# Altium schematic symbol library jlcpcb_2025_04_ferrites_extended_0402.schlib: 536 symbols (part 8 of 10)
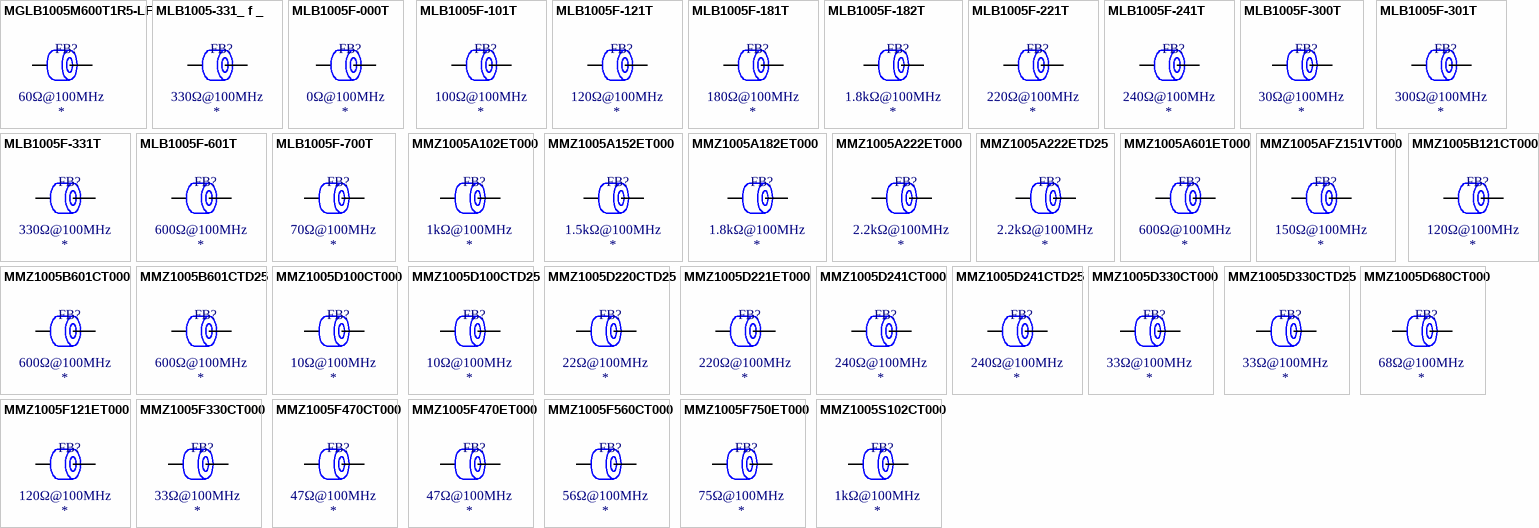
[diagram p20: symbols MGLB1005M600T1R5-LF to MMZ1005S102CT000]

## MMZ1005D330CTD25
designator FB?  Impedance @ Frequency: 33Ω@100MHz
Ferrite, 33Ω@100MHz, ±25%, 240mΩ, 400mA, SMD 0402; Manufacturer: TDK; Manufacturer Part Number: MMZ1005D330CTD25; Package Size: 0402; JLCPCB Basic Part: No; JLCPCB Part Number: C404707; Supplier 1: LCSC; Category: Ferrite Beads; Supplier Part Number 1: C404707; Tolerance: ±25%; Rated Current: 400mA; DC Resistance: 240mΩ; RoHS: Yes; ComponentLink1Description: Datasheet; ComponentLink1URL: https://wmsc.lcsc.com/wmsc/upload/file/pdf/v2/lcsc/2304140030_TDK-MMZ1005D330CTD25_C404707.pdf; ComponentLink2Description: JLCPCB Part URL; ComponentLink2URL: https://jlcpcb.com/partdetail/C404707; ComponentLink3Description: LCSC Part URL; ComponentLink3URL: https://lcsc.com/product-detail/Ferrite-Beads_TDK-TDK-MMZ1005D330CTD25_C404707.html
footprint FB-0402 (0402 (1005M) Ferrite)
pins: 1, 2

## MMZ1005D680CT000
designator FB?  Impedance @ Frequency: 68Ω@100MHz
Ferrite, 68Ω@100MHz, ±25%, 380mΩ, 400mA, SMD 0402; Manufacturer: TDK; Manufacturer Part Number: MMZ1005D680CT000; Package Size: 0402; JLCPCB Basic Part: No; JLCPCB Part Number: C275416; Supplier 1: LCSC; Category: Ferrite Beads; Supplier Part Number 1: C275416; Tolerance: ±25%; Rated Current: 400mA; DC Resistance: 380mΩ; RoHS: Yes; ComponentLink1Description: Datasheet; ComponentLink1URL: https://wmsc.lcsc.com/wmsc/upload/file/pdf/v2/lcsc/2304140030_TDK-MMZ1005D680CT000_C275416.pdf; ComponentLink2Description: JLCPCB Part URL; ComponentLink2URL: https://jlcpcb.com/partdetail/C275416; ComponentLink3Description: LCSC Part URL; ComponentLink3URL: https://lcsc.com/product-detail/Ferrite-Beads_TDK-TDK-MMZ1005D680CT000_C275416.html
footprint FB-0402 (0402 (1005M) Ferrite)
pins: 1, 2

## MMZ1005F121ET000
designator FB?  Impedance @ Frequency: 120Ω@100MHz
Ferrite, 120Ω@100MHz, ±25%, 1.5Ω, 200mA, SMD 0402; Manufacturer: TDK; Manufacturer Part Number: MMZ1005F121ET000; Package Size: 0402; JLCPCB Basic Part: No; JLCPCB Part Number: C89458; Supplier 1: LCSC; Category: Ferrite Beads; Supplier Part Number 1: C89458; Tolerance: ±25%; Rated Current: 200mA; DC Resistance: 1.5Ω; RoHS: Yes; ComponentLink1Description: Datasheet; ComponentLink1URL: https://wmsc.lcsc.com/wmsc/upload/file/pdf/v2/lcsc/1809051316_TDK-MMZ1005F121ET000_C89458.pdf; ComponentLink2Description: JLCPCB Part URL; ComponentLink2URL: https://jlcpcb.com/partdetail/C89458; ComponentLink3Description: LCSC Part URL; ComponentLink3URL: https://lcsc.com/product-detail/Ferrite-Beads_TDK-TDK-MMZ1005F121ET000_C89458.html
footprint FB-0402 (0402 (1005M) Ferrite)
pins: 1, 2

## MMZ1005F330CT000
designator FB?  Impedance @ Frequency: 33Ω@100MHz
Ferrite, 33Ω@100MHz, ±25%, 500mΩ, 200mA, SMD 0402; Manufacturer: TDK; Manufacturer Part Number: MMZ1005F330CT000; Package Size: 0402; JLCPCB Basic Part: No; JLCPCB Part Number: C275418; Supplier 1: LCSC; Category: Ferrite Beads; Supplier Part Number 1: C275418; Tolerance: ±25%; Rated Current: 200mA; DC Resistance: 500mΩ; RoHS: Yes; ComponentLink1Description: Datasheet; ComponentLink1URL: https://wmsc.lcsc.com/wmsc/upload/file/pdf/v2/lcsc/2304140030_TDK-MMZ1005F330CT000_C275418.pdf; ComponentLink2Description: JLCPCB Part URL; ComponentLink2URL: https://jlcpcb.com/partdetail/C275418; ComponentLink3Description: LCSC Part URL; ComponentLink3URL: https://lcsc.com/product-detail/Ferrite-Beads_TDK-TDK-MMZ1005F330CT000_C275418.html
footprint FB-0402 (0402 (1005M) Ferrite)
pins: 1, 2

## MMZ1005F470CT000
designator FB?  Impedance @ Frequency: 47Ω@100MHz
Ferrite, 47Ω@100MHz, ±25%, 600mΩ, 100mA, SMD 0402; Manufacturer: TDK; Manufacturer Part Number: MMZ1005F470CT000; Package Size: 0402; JLCPCB Basic Part: No; JLCPCB Part Number: C275419; Supplier 1: LCSC; Category: Ferrite Beads; Supplier Part Number 1: C275419; Tolerance: ±25%; Rated Current: 100mA; DC Resistance: 600mΩ; RoHS: Yes; ComponentLink1Description: Datasheet; ComponentLink1URL: https://wmsc.lcsc.com/wmsc/upload/file/pdf/v2/lcsc/2304140030_TDK-MMZ1005F470CT000_C275419.pdf; ComponentLink2Description: JLCPCB Part URL; ComponentLink2URL: https://jlcpcb.com/partdetail/C275419; ComponentLink3Description: LCSC Part URL; ComponentLink3URL: https://lcsc.com/product-detail/Ferrite-Beads_TDK-TDK-MMZ1005F470CT000_C275419.html
footprint FB-0402 (0402 (1005M) Ferrite)
pins: 1, 2

## MMZ1005F470ET000
designator FB?  Impedance @ Frequency: 47Ω@100MHz
Ferrite, 47Ω@100MHz, ±25%, 700mΩ, 300mA, SMD 0402; Manufacturer: TDK; Manufacturer Part Number: MMZ1005F470ET000; Package Size: 0402; JLCPCB Basic Part: No; JLCPCB Part Number: C275420; Supplier 1: LCSC; Category: Ferrite Beads; Supplier Part Number 1: C275420; Tolerance: ±25%; Rated Current: 300mA; DC Resistance: 700mΩ; RoHS: Yes; ComponentLink1Description: Datasheet; ComponentLink1URL: https://wmsc.lcsc.com/wmsc/upload/file/pdf/v2/lcsc/2304140030_TDK-MMZ1005F470ET000_C275420.pdf; ComponentLink2Description: JLCPCB Part URL; ComponentLink2URL: https://jlcpcb.com/partdetail/C275420; ComponentLink3Description: LCSC Part URL; ComponentLink3URL: https://lcsc.com/product-detail/Ferrite-Beads_TDK-TDK-MMZ1005F470ET000_C275420.html
footprint FB-0402 (0402 (1005M) Ferrite)
pins: 1, 2

## MMZ1005F560CT000
designator FB?  Impedance @ Frequency: 56Ω@100MHz
Ferrite, 56Ω@100MHz, ±25%, 700mΩ, 100mA, SMD 0402; Manufacturer: TDK; Manufacturer Part Number: MMZ1005F560CT000; Package Size: 0402; JLCPCB Basic Part: No; JLCPCB Part Number: C275421; Supplier 1: LCSC; Category: Ferrite Beads; Supplier Part Number 1: C275421; Tolerance: ±25%; Rated Current: 100mA; DC Resistance: 700mΩ; RoHS: Yes; ComponentLink1Description: Datasheet; ComponentLink1URL: https://wmsc.lcsc.com/wmsc/upload/file/pdf/v2/lcsc/2304140030_TDK-MMZ1005F560CT000_C275421.pdf; ComponentLink2Description: JLCPCB Part URL; ComponentLink2URL: https://jlcpcb.com/partdetail/C275421; ComponentLink3Description: LCSC Part URL; ComponentLink3URL: https://lcsc.com/product-detail/Ferrite-Beads_TDK-TDK-MMZ1005F560CT000_C275421.html
footprint FB-0402 (0402 (1005M) Ferrite)
pins: 1, 2

## MMZ1005F750ET000
designator FB?  Impedance @ Frequency: 75Ω@100MHz
Ferrite, 75Ω@100MHz, ±25%, 1Ω, 250mA, SMD 0402; Manufacturer: TDK; Manufacturer Part Number: MMZ1005F750ET000; Package Size: 0402; JLCPCB Basic Part: No; JLCPCB Part Number: C275422; Supplier 1: LCSC; Category: Ferrite Beads; Supplier Part Number 1: C275422; Tolerance: ±25%; Rated Current: 250mA; DC Resistance: 1Ω; RoHS: Yes; ComponentLink1Description: Datasheet; ComponentLink1URL: https://wmsc.lcsc.com/wmsc/upload/file/pdf/v2/lcsc/2304140030_TDK-MMZ1005F750ET000_C275422.pdf; ComponentLink2Description: JLCPCB Part URL; ComponentLink2URL: https://jlcpcb.com/partdetail/C275422; ComponentLink3Description: LCSC Part URL; ComponentLink3URL: https://lcsc.com/product-detail/Ferrite-Beads_TDK-TDK-MMZ1005F750ET000_C275422.html
footprint FB-0402 (0402 (1005M) Ferrite)
pins: 1, 2

## MMZ1005S102CT000
designator FB?  Impedance @ Frequency: 1kΩ@100MHz
Ferrite, 1kΩ@100MHz, ±25%, 750mΩ, 200mA, SMD 0402; Manufacturer: TDK; Manufacturer Part Number: MMZ1005S102CT000; Package Size: 0402; JLCPCB Basic Part: No; JLCPCB Part Number: C76803; Supplier 1: LCSC; Category: Ferrite Beads; Supplier Part Number 1: C76803; Tolerance: ±25%; Rated Current: 200mA; DC Resistance: 750mΩ; RoHS: Yes; ComponentLink1Description: Datasheet; ComponentLink1URL: https://wmsc.lcsc.com/wmsc/upload/file/pdf/v2/lcsc/2304140030_TDK-MMZ1005S102CT000_C76803.pdf; ComponentLink2Description: JLCPCB Part URL; ComponentLink2URL: https://jlcpcb.com/partdetail/C76803; ComponentLink3Description: LCSC Part URL; ComponentLink3URL: https://lcsc.com/product-detail/Ferrite-Beads_TDK-TDK-MMZ1005S102CT000_C76803.html
footprint FB-0402 (0402 (1005M) Ferrite)
pins: 1, 2

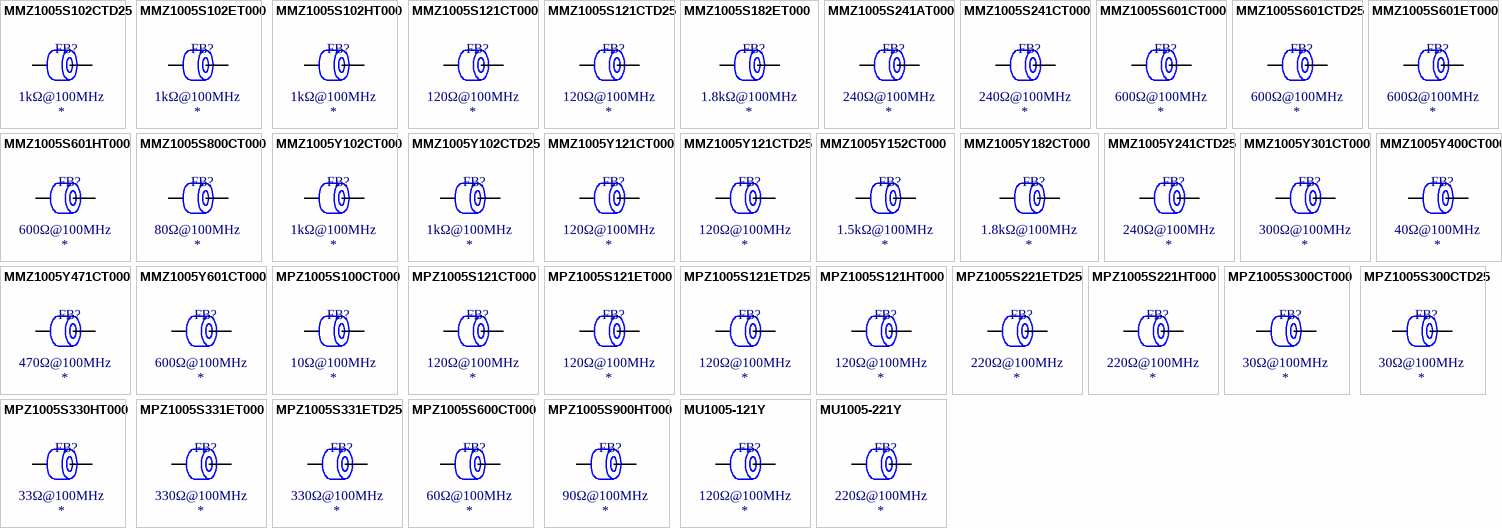
[diagram p10: symbols MMZ1005S102CTD25 to MU1005-221Y]

## MMZ1005S102CTD25
designator FB?  Impedance @ Frequency: 1kΩ@100MHz
Ferrite, 1kΩ@100MHz, ±25%, 750mΩ, 200mA, SMD 0402; Manufacturer: TDK; Manufacturer Part Number: MMZ1005S102CTD25; Package Size: 0402; JLCPCB Basic Part: No; JLCPCB Part Number: C360716; Supplier 1: LCSC; Category: Ferrite Beads; Supplier Part Number 1: C360716; Tolerance: ±25%; Rated Current: 200mA; DC Resistance: 750mΩ; RoHS: Yes; ComponentLink1Description: Datasheet; ComponentLink1URL: https://wmsc.lcsc.com/wmsc/upload/file/pdf/v2/lcsc/1912111437_TDK-MMZ1005S102CTD25_C360716.pdf; ComponentLink2Description: JLCPCB Part URL; ComponentLink2URL: https://jlcpcb.com/partdetail/C360716; ComponentLink3Description: LCSC Part URL; ComponentLink3URL: https://lcsc.com/product-detail/Ferrite-Beads_TDK-TDK-MMZ1005S102CTD25_C360716.html
footprint FB-0402 (0402 (1005M) Ferrite)
pins: 1, 2

## MMZ1005S102ET000
designator FB?  Impedance @ Frequency: 1kΩ@100MHz
Ferrite, 1kΩ@100MHz, ±25%, 1Ω, 250mA, SMD 0402; Manufacturer: TDK; Manufacturer Part Number: MMZ1005S102ET000; Package Size: 0402; JLCPCB Basic Part: No; JLCPCB Part Number: C275423; Supplier 1: LCSC; Category: Ferrite Beads; Supplier Part Number 1: C275423; Tolerance: ±25%; Rated Current: 250mA; DC Resistance: 1Ω; RoHS: Yes; ComponentLink1Description: Datasheet; ComponentLink1URL: https://wmsc.lcsc.com/wmsc/upload/file/pdf/v2/lcsc/2304140030_TDK-MMZ1005S102ET000_C275423.pdf; ComponentLink2Description: JLCPCB Part URL; ComponentLink2URL: https://jlcpcb.com/partdetail/C275423; ComponentLink3Description: LCSC Part URL; ComponentLink3URL: https://lcsc.com/product-detail/Ferrite-Beads_TDK-TDK-MMZ1005S102ET000_C275423.html
footprint FB-0402 (0402 (1005M) Ferrite)
pins: 1, 2

## MMZ1005S102HT000
designator FB?  Impedance @ Frequency: 1kΩ@100MHz
Ferrite, 1kΩ@100MHz, ±25%, 490mΩ, 360mA, SMD 0402; Manufacturer: TDK; Manufacturer Part Number: MMZ1005S102HT000; Package Size: 0402; JLCPCB Basic Part: No; JLCPCB Part Number: C193412; Supplier 1: LCSC; Category: Ferrite Beads; Supplier Part Number 1: C193412; Tolerance: ±25%; Rated Current: 360mA; DC Resistance: 490mΩ; RoHS: Yes; ComponentLink1Description: Datasheet; ComponentLink1URL: https://wmsc.lcsc.com/wmsc/upload/file/pdf/v2/lcsc/1810010153_TDK-MMZ1005S102HT000_C193412.pdf; ComponentLink2Description: JLCPCB Part URL; ComponentLink2URL: https://jlcpcb.com/partdetail/C193412; ComponentLink3Description: LCSC Part URL; ComponentLink3URL: https://lcsc.com/product-detail/Ferrite-Beads_TDK-TDK-MMZ1005S102HT000_C193412.html
footprint FB-0402 (0402 (1005M) Ferrite)
pins: 1, 2

## MMZ1005S121CT000
designator FB?  Impedance @ Frequency: 120Ω@100MHz
Ferrite, 120Ω@100MHz, ±25%, 220mΩ, 500mA, SMD 0402; Manufacturer: TDK; Manufacturer Part Number: MMZ1005S121CT000; Package Size: 0402; JLCPCB Basic Part: No; JLCPCB Part Number: C92036; Supplier 1: LCSC; Category: Ferrite Beads; Supplier Part Number 1: C92036; Tolerance: ±25%; Rated Current: 500mA; DC Resistance: 220mΩ; RoHS: Yes; ComponentLink1Description: Datasheet; ComponentLink1URL: https://wmsc.lcsc.com/wmsc/upload/file/pdf/v2/lcsc/2304140030_TDK-MMZ1005S121CT000_C92036.pdf; ComponentLink2Description: JLCPCB Part URL; ComponentLink2URL: https://jlcpcb.com/partdetail/C92036; ComponentLink3Description: LCSC Part URL; ComponentLink3URL: https://lcsc.com/product-detail/Ferrite-Beads_TDK-TDK-MMZ1005S121CT000_C92036.html
footprint FB-0402 (0402 (1005M) Ferrite)
pins: 1, 2

## MMZ1005S121CTD25
designator FB?  Impedance @ Frequency: 120Ω@100MHz
Ferrite, 120Ω@100MHz, ±25%, 220mΩ, 500mA, SMD 0402; Manufacturer: TDK; Manufacturer Part Number: MMZ1005S121CTD25; Package Size: 0402; JLCPCB Basic Part: No; JLCPCB Part Number: C404693; Supplier 1: LCSC; Category: Ferrite Beads; Supplier Part Number 1: C404693; Tolerance: ±25%; Rated Current: 500mA; DC Resistance: 220mΩ; RoHS: Yes; ComponentLink1Description: Datasheet; ComponentLink1URL: https://wmsc.lcsc.com/wmsc/upload/file/pdf/v2/lcsc/2304140030_TDK-MMZ1005S121CTD25_C404693.pdf; ComponentLink2Description: JLCPCB Part URL; ComponentLink2URL: https://jlcpcb.com/partdetail/C404693; ComponentLink3Description: LCSC Part URL; ComponentLink3URL: https://lcsc.com/product-detail/Ferrite-Beads_TDK-TDK-MMZ1005S121CTD25_C404693.html
footprint FB-0402 (0402 (1005M) Ferrite)
pins: 1, 2

## MMZ1005S182ET000
designator FB?  Impedance @ Frequency: 1.8kΩ@100MHz
Ferrite, 1.8kΩ@100MHz, ±25%, 1.5Ω, 200mA, SMD 0402; Manufacturer: TDK; Manufacturer Part Number: MMZ1005S182ET000; Package Size: 0402; JLCPCB Basic Part: No; JLCPCB Part Number: C694571; Supplier 1: LCSC; Category: Ferrite Beads; Supplier Part Number 1: C694571; Tolerance: ±25%; Rated Current: 200mA; DC Resistance: 1.5Ω; RoHS: Yes; ComponentLink1Description: Datasheet; ComponentLink1URL: https://wmsc.lcsc.com/wmsc/upload/file/pdf/v2/lcsc/2105241314_TDK-MMZ1005S182ET000_C694571.pdf; ComponentLink2Description: JLCPCB Part URL; ComponentLink2URL: https://jlcpcb.com/partdetail/C694571; ComponentLink3Description: LCSC Part URL; ComponentLink3URL: https://lcsc.com/product-detail/Ferrite-Beads_TDK-TDK-MMZ1005S182ET000_C694571.html
footprint FB-0402 (0402 (1005M) Ferrite)
pins: 1, 2

## MMZ1005S241AT000
designator FB?  Impedance @ Frequency: 240Ω@100MHz
Ferrite, 240Ω@100MHz, ±25%, 280mΩ, 400mA, SMD 0402; Manufacturer: TDK; Manufacturer Part Number: MMZ1005S241AT000; Package Size: 0402; JLCPCB Basic Part: No; JLCPCB Part Number: C87548; Supplier 1: LCSC; Category: Ferrite Beads; Supplier Part Number 1: C87548; Tolerance: ±25%; Rated Current: 400mA; DC Resistance: 280mΩ; RoHS: Yes; ComponentLink1Description: Datasheet; ComponentLink1URL: https://wmsc.lcsc.com/wmsc/upload/file/pdf/v2/lcsc/1810162217_TDK-MMZ1005S241AT000_C87548.pdf; ComponentLink2Description: JLCPCB Part URL; ComponentLink2URL: https://jlcpcb.com/partdetail/C87548; ComponentLink3Description: LCSC Part URL; ComponentLink3URL: https://lcsc.com/product-detail/Ferrite-Beads_TDK-TDK-MMZ1005S241AT000_C87548.html
footprint FB-0402 (0402 (1005M) Ferrite)
pins: 1, 2

## MMZ1005S241CT000
designator FB?  Impedance @ Frequency: 240Ω@100MHz
Ferrite, 240Ω@100MHz, ±25%, 280mΩ, 400mA, SMD 0402; Manufacturer: TDK; Manufacturer Part Number: MMZ1005S241CT000; Package Size: 0402; JLCPCB Basic Part: No; JLCPCB Part Number: C87549; Supplier 1: LCSC; Category: Ferrite Beads; Supplier Part Number 1: C87549; Tolerance: ±25%; Rated Current: 400mA; DC Resistance: 280mΩ; RoHS: Yes; ComponentLink1Description: Datasheet; ComponentLink1URL: https://wmsc.lcsc.com/wmsc/upload/file/pdf/v2/lcsc/2304140030_TDK-MMZ1005S241CT000_C87549.pdf; ComponentLink2Description: JLCPCB Part URL; ComponentLink2URL: https://jlcpcb.com/partdetail/C87549; ComponentLink3Description: LCSC Part URL; ComponentLink3URL: https://lcsc.com/product-detail/Ferrite-Beads_TDK-TDK-MMZ1005S241CT000_C87549.html
footprint FB-0402 (0402 (1005M) Ferrite)
pins: 1, 2

## MMZ1005S601CT000
designator FB?  Impedance @ Frequency: 600Ω@100MHz
Ferrite, 600Ω@100MHz, ±25%, 520mΩ, 300mA, SMD 0402; Manufacturer: TDK; Manufacturer Part Number: MMZ1005S601CT000; Package Size: 0402; JLCPCB Basic Part: No; JLCPCB Part Number: C76804; Supplier 1: LCSC; Category: Ferrite Beads; Supplier Part Number 1: C76804; Tolerance: ±25%; Rated Current: 300mA; DC Resistance: 520mΩ; RoHS: Yes; ComponentLink1Description: Datasheet; ComponentLink1URL: https://wmsc.lcsc.com/wmsc/upload/file/pdf/v2/lcsc/2304140030_TDK-MMZ1005S601CT000_C76804.pdf; ComponentLink2Description: JLCPCB Part URL; ComponentLink2URL: https://jlcpcb.com/partdetail/C76804; ComponentLink3Description: LCSC Part URL; ComponentLink3URL: https://lcsc.com/product-detail/Ferrite-Beads_TDK-TDK-MMZ1005S601CT000_C76804.html
footprint FB-0402 (0402 (1005M) Ferrite)
pins: 1, 2

## MMZ1005S601CTD25
designator FB?  Impedance @ Frequency: 600Ω@100MHz
Ferrite, 600Ω@100MHz, ±25%, 520mΩ, 300mA, SMD 0402; Manufacturer: TDK; Manufacturer Part Number: MMZ1005S601CTD25; Package Size: 0402; JLCPCB Basic Part: No; JLCPCB Part Number: C193388; Supplier 1: LCSC; Category: Ferrite Beads; Supplier Part Number 1: C193388; Tolerance: ±25%; Rated Current: 300mA; DC Resistance: 520mΩ; RoHS: Yes; ComponentLink1Description: Datasheet; ComponentLink1URL: https://wmsc.lcsc.com/wmsc/upload/file/pdf/v2/lcsc/2304140030_TDK-MMZ1005S601CTD25_C193388.pdf; ComponentLink2Description: JLCPCB Part URL; ComponentLink2URL: https://jlcpcb.com/partdetail/C193388; ComponentLink3Description: LCSC Part URL; ComponentLink3URL: https://lcsc.com/product-detail/Ferrite-Beads_TDK-TDK-MMZ1005S601CTD25_C193388.html
footprint FB-0402 (0402 (1005M) Ferrite)
pins: 1, 2

## MMZ1005S601ET000
designator FB?  Impedance @ Frequency: 600Ω@100MHz
Ferrite, 600Ω@100MHz, ±25%, 650mΩ, 300mA, SMD 0402; Manufacturer: TDK; Manufacturer Part Number: MMZ1005S601ET000; Package Size: 0402; JLCPCB Basic Part: No; JLCPCB Part Number: C87550; Supplier 1: LCSC; Category: Ferrite Beads; Supplier Part Number 1: C87550; Tolerance: ±25%; Rated Current: 300mA; DC Resistance: 650mΩ; RoHS: Yes; ComponentLink1Description: Datasheet; ComponentLink1URL: https://wmsc.lcsc.com/wmsc/upload/file/pdf/v2/lcsc/2304140030_TDK-MMZ1005S601ET000_C87550.pdf; ComponentLink2Description: JLCPCB Part URL; ComponentLink2URL: https://jlcpcb.com/partdetail/C87550; ComponentLink3Description: LCSC Part URL; ComponentLink3URL: https://lcsc.com/product-detail/Ferrite-Beads_TDK-TDK-MMZ1005S601ET000_C87550.html
footprint FB-0402 (0402 (1005M) Ferrite)
pins: 1, 2

## MMZ1005S601HT000
designator FB?  Impedance @ Frequency: 600Ω@100MHz
Ferrite, 600Ω@100MHz, ±25%, 340mΩ, 440mA, SMD 0402; Manufacturer: TDK; Manufacturer Part Number: MMZ1005S601HT000; Package Size: 0402; JLCPCB Basic Part: No; JLCPCB Part Number: C193387; Supplier 1: LCSC; Category: Ferrite Beads; Supplier Part Number 1: C193387; Tolerance: ±25%; Rated Current: 440mA; DC Resistance: 340mΩ; RoHS: Yes; ComponentLink1Description: Datasheet; ComponentLink1URL: https://wmsc.lcsc.com/wmsc/upload/file/pdf/v2/lcsc/2304140030_TDK-MMZ1005S601HT000_C193387.pdf; ComponentLink2Description: JLCPCB Part URL; ComponentLink2URL: https://jlcpcb.com/partdetail/C193387; ComponentLink3Description: LCSC Part URL; ComponentLink3URL: https://lcsc.com/product-detail/Ferrite-Beads_TDK-TDK-MMZ1005S601HT000_C193387.html
footprint FB-0402 (0402 (1005M) Ferrite)
pins: 1, 2

## MMZ1005S800CT000
designator FB?  Impedance @ Frequency: 80Ω@100MHz
Ferrite, 80Ω@100MHz, ±25%, 120mΩ, 500mA, SMD 0402; Manufacturer: TDK; Manufacturer Part Number: MMZ1005S800CT000; Package Size: 0402; JLCPCB Basic Part: No; JLCPCB Part Number: C76805; Supplier 1: LCSC; Category: Ferrite Beads; Supplier Part Number 1: C76805; Tolerance: ±25%; Rated Current: 500mA; DC Resistance: 120mΩ; RoHS: Yes; ComponentLink1Description: Datasheet; ComponentLink1URL: https://wmsc.lcsc.com/wmsc/upload/file/pdf/v2/lcsc/2304140030_TDK-MMZ1005S800CT000_C76805.pdf; ComponentLink2Description: JLCPCB Part URL; ComponentLink2URL: https://jlcpcb.com/partdetail/C76805; ComponentLink3Description: LCSC Part URL; ComponentLink3URL: https://lcsc.com/product-detail/Ferrite-Beads_TDK-TDK-MMZ1005S800CT000_C76805.html
footprint FB-0402 (0402 (1005M) Ferrite)
pins: 1, 2

## MMZ1005Y102CT000
designator FB?  Impedance @ Frequency: 1kΩ@100MHz
Ferrite, 1kΩ@100MHz, ±25%, 700mΩ, 200mA, SMD 0402; Manufacturer: TDK; Manufacturer Part Number: MMZ1005Y102CT000; Package Size: 0402; JLCPCB Basic Part: No; JLCPCB Part Number: C275428; Supplier 1: LCSC; Category: Ferrite Beads; Supplier Part Number 1: C275428; Tolerance: ±25%; Rated Current: 200mA; DC Resistance: 700mΩ; RoHS: Yes; ComponentLink1Description: Datasheet; ComponentLink1URL: https://wmsc.lcsc.com/wmsc/upload/file/pdf/v2/lcsc/2304140030_TDK-MMZ1005Y102CT000_C275428.pdf; ComponentLink2Description: JLCPCB Part URL; ComponentLink2URL: https://jlcpcb.com/partdetail/C275428; ComponentLink3Description: LCSC Part URL; ComponentLink3URL: https://lcsc.com/product-detail/Ferrite-Beads_TDK-TDK-MMZ1005Y102CT000_C275428.html
footprint FB-0402 (0402 (1005M) Ferrite)
pins: 1, 2

## MMZ1005Y102CTD25
designator FB?  Impedance @ Frequency: 1kΩ@100MHz
Ferrite, 1kΩ@100MHz, ±25%, 700mΩ, 200mA, SMD 0402; Manufacturer: TDK; Manufacturer Part Number: MMZ1005Y102CTD25; Package Size: 0402; JLCPCB Basic Part: No; JLCPCB Part Number: C404702; Supplier 1: LCSC; Category: Ferrite Beads; Supplier Part Number 1: C404702; Tolerance: ±25%; Rated Current: 200mA; DC Resistance: 700mΩ; RoHS: Yes; ComponentLink1Description: Datasheet; ComponentLink1URL: https://wmsc.lcsc.com/wmsc/upload/file/pdf/v2/lcsc/2304140030_TDK-MMZ1005Y102CTD25_C404702.pdf; ComponentLink2Description: JLCPCB Part URL; ComponentLink2URL: https://jlcpcb.com/partdetail/C404702; ComponentLink3Description: LCSC Part URL; ComponentLink3URL: https://lcsc.com/product-detail/Ferrite-Beads_TDK-TDK-MMZ1005Y102CTD25_C404702.html
footprint FB-0402 (0402 (1005M) Ferrite)
pins: 1, 2

## MMZ1005Y121CT000
designator FB?  Impedance @ Frequency: 120Ω@100MHz
Ferrite, 120Ω@100MHz, ±25%, 180mΩ, 400mA, SMD 0402; Manufacturer: TDK; Manufacturer Part Number: MMZ1005Y121CT000; Package Size: 0402; JLCPCB Basic Part: No; JLCPCB Part Number: C107324; Supplier 1: LCSC; Category: Ferrite Beads; Supplier Part Number 1: C107324; Tolerance: ±25%; Rated Current: 400mA; DC Resistance: 180mΩ; RoHS: Yes; ComponentLink1Description: Datasheet; ComponentLink1URL: https://wmsc.lcsc.com/wmsc/upload/file/pdf/v2/lcsc/1809051314_TDK-MMZ1005Y121CT000_C107324.pdf; ComponentLink2Description: JLCPCB Part URL; ComponentLink2URL: https://jlcpcb.com/partdetail/C107324; ComponentLink3Description: LCSC Part URL; ComponentLink3URL: https://lcsc.com/product-detail/Ferrite-Beads_TDK-TDK-MMZ1005Y121CT000_C107324.html
footprint FB-0402 (0402 (1005M) Ferrite)
pins: 1, 2

## MMZ1005Y121CTD25
designator FB?  Impedance @ Frequency: 120Ω@100MHz
Ferrite, 120Ω@100MHz, ±25%, 180mΩ, 400mA, SMD 0402; Manufacturer: TDK; Manufacturer Part Number: MMZ1005Y121CTD25; Package Size: 0402; JLCPCB Basic Part: No; JLCPCB Part Number: C404697; Supplier 1: LCSC; Category: Ferrite Beads; Supplier Part Number 1: C404697; Tolerance: ±25%; Rated Current: 400mA; DC Resistance: 180mΩ; RoHS: Yes; ComponentLink1Description: Datasheet; ComponentLink1URL: https://wmsc.lcsc.com/wmsc/upload/file/pdf/v2/lcsc/2304140030_TDK-MMZ1005Y121CTD25_C404697.pdf; ComponentLink2Description: JLCPCB Part URL; ComponentLink2URL: https://jlcpcb.com/partdetail/C404697; ComponentLink3Description: LCSC Part URL; ComponentLink3URL: https://lcsc.com/product-detail/Ferrite-Beads_TDK-TDK-MMZ1005Y121CTD25_C404697.html
footprint FB-0402 (0402 (1005M) Ferrite)
pins: 1, 2

## MMZ1005Y152CT000
designator FB?  Impedance @ Frequency: 1.5kΩ@100MHz
Ferrite, 1.5kΩ@100MHz, ±25%, 1Ω, 100mA, SMD 0402; Manufacturer: TDK; Manufacturer Part Number: MMZ1005Y152CT000; Package Size: 0402; JLCPCB Basic Part: No; JLCPCB Part Number: C275430; Supplier 1: LCSC; Category: Ferrite Beads; Supplier Part Number 1: C275430; Tolerance: ±25%; Rated Current: 100mA; DC Resistance: 1Ω; RoHS: Yes; ComponentLink1Description: Datasheet; ComponentLink1URL: https://wmsc.lcsc.com/wmsc/upload/file/pdf/v2/lcsc/1810140909_TDK-MMZ1005Y152CT000_C275430.pdf; ComponentLink2Description: JLCPCB Part URL; ComponentLink2URL: https://jlcpcb.com/partdetail/C275430; ComponentLink3Description: LCSC Part URL; ComponentLink3URL: https://lcsc.com/product-detail/Ferrite-Beads_TDK-TDK-MMZ1005Y152CT000_C275430.html
footprint FB-0402 (0402 (1005M) Ferrite)
pins: 1, 2

## MMZ1005Y182CT000
designator FB?  Impedance @ Frequency: 1.8kΩ@100MHz
Ferrite, 1.8kΩ@100MHz, ±25%, 850mΩ, 150mA, SMD 0402; Manufacturer: TDK; Manufacturer Part Number: MMZ1005Y182CT000; Package Size: 0402; JLCPCB Basic Part: No; JLCPCB Part Number: C2683172; Supplier 1: LCSC; Category: Ferrite Beads; Supplier Part Number 1: C2683172; Tolerance: ±25%; Rated Current: 150mA; DC Resistance: 850mΩ; RoHS: Yes; ComponentLink1Description: Datasheet; ComponentLink1URL: https://wmsc.lcsc.com/wmsc/upload/file/pdf/v2/lcsc/2106070404_TDK-MMZ1005Y182CT000_C2683172.pdf; ComponentLink2Description: JLCPCB Part URL; ComponentLink2URL: https://jlcpcb.com/partdetail/C2683172; ComponentLink3Description: LCSC Part URL; ComponentLink3URL: https://lcsc.com/product-detail/Ferrite-Beads_TDK-TDK-MMZ1005Y182CT000_C2683172.html
footprint FB-0402 (0402 (1005M) Ferrite)
pins: 1, 2

## MMZ1005Y241CTD25
designator FB?  Impedance @ Frequency: 240Ω@100MHz
Ferrite, 240Ω@100MHz, ±25%, 260mΩ, 300mA, SMD 0402; Manufacturer: TDK; Manufacturer Part Number: MMZ1005Y241CTD25; Package Size: 0402; JLCPCB Basic Part: No; JLCPCB Part Number: C404698; Supplier 1: LCSC; Category: Ferrite Beads; Supplier Part Number 1: C404698; Tolerance: ±25%; Rated Current: 300mA; DC Resistance: 260mΩ; RoHS: Yes; ComponentLink1Description: Datasheet; ComponentLink1URL: https://wmsc.lcsc.com/wmsc/upload/file/pdf/v2/lcsc/2304140030_TDK-MMZ1005Y241CTD25_C404698.pdf; ComponentLink2Description: JLCPCB Part URL; ComponentLink2URL: https://jlcpcb.com/partdetail/C404698; ComponentLink3Description: LCSC Part URL; ComponentLink3URL: https://lcsc.com/product-detail/Ferrite-Beads_TDK-TDK-MMZ1005Y241CTD25_C404698.html
footprint FB-0402 (0402 (1005M) Ferrite)
pins: 1, 2

## MMZ1005Y301CT000
designator FB?  Impedance @ Frequency: 300Ω@100MHz
Ferrite, 300Ω@100MHz, ±25%, 380mΩ, 250mA, SMD 0402; Manufacturer: TDK; Manufacturer Part Number: MMZ1005Y301CT000; Package Size: 0402; JLCPCB Basic Part: No; JLCPCB Part Number: C275431; Supplier 1: LCSC; Category: Ferrite Beads; Supplier Part Number 1: C275431; Tolerance: ±25%; Rated Current: 250mA; DC Resistance: 380mΩ; RoHS: Yes; ComponentLink1Description: Datasheet; ComponentLink1URL: https://wmsc.lcsc.com/wmsc/upload/file/pdf/v2/lcsc/2304140030_TDK-MMZ1005Y301CT000_C275431.pdf; ComponentLink2Description: JLCPCB Part URL; ComponentLink2URL: https://jlcpcb.com/partdetail/C275431; ComponentLink3Description: LCSC Part URL; ComponentLink3URL: https://lcsc.com/product-detail/Ferrite-Beads_TDK-TDK-MMZ1005Y301CT000_C275431.html
footprint FB-0402 (0402 (1005M) Ferrite)
pins: 1, 2

## MMZ1005Y400CT000
designator FB?  Impedance @ Frequency: 40Ω@100MHz
Ferrite, 40Ω@100MHz, ±25%, 100mΩ, 550mA, SMD 0402; Manufacturer: TDK; Manufacturer Part Number: MMZ1005Y400CT000; Package Size: 0402; JLCPCB Basic Part: No; JLCPCB Part Number: C76807; Supplier 1: LCSC; Category: Ferrite Beads; Supplier Part Number 1: C76807; Tolerance: ±25%; Rated Current: 550mA; DC Resistance: 100mΩ; RoHS: Yes; ComponentLink1Description: Datasheet; ComponentLink1URL: https://wmsc.lcsc.com/wmsc/upload/file/pdf/v2/lcsc/2304140030_TDK-MMZ1005Y400CT000_C76807.pdf; ComponentLink2Description: JLCPCB Part URL; ComponentLink2URL: https://jlcpcb.com/partdetail/C76807; ComponentLink3Description: LCSC Part URL; ComponentLink3URL: https://lcsc.com/product-detail/Ferrite-Beads_TDK-TDK-MMZ1005Y400CT000_C76807.html
footprint FB-0402 (0402 (1005M) Ferrite)
pins: 1, 2

## MMZ1005Y471CT000
designator FB?  Impedance @ Frequency: 470Ω@100MHz
Ferrite, 470Ω@100MHz, ±25%, 470mΩ, 250mA, SMD 0402; Manufacturer: TDK; Manufacturer Part Number: MMZ1005Y471CT000; Package Size: 0402; JLCPCB Basic Part: No; JLCPCB Part Number: C87551; Supplier 1: LCSC; Category: Ferrite Beads; Supplier Part Number 1: C87551; Tolerance: ±25%; Rated Current: 250mA; DC Resistance: 470mΩ; RoHS: Yes; ComponentLink1Description: Datasheet; ComponentLink1URL: https://wmsc.lcsc.com/wmsc/upload/file/pdf/v2/lcsc/2304140030_TDK-MMZ1005Y471CT000_C87551.pdf; ComponentLink2Description: JLCPCB Part URL; ComponentLink2URL: https://jlcpcb.com/partdetail/C87551; ComponentLink3Description: LCSC Part URL; ComponentLink3URL: https://lcsc.com/product-detail/Ferrite-Beads_TDK-TDK-MMZ1005Y471CT000_C87551.html
footprint FB-0402 (0402 (1005M) Ferrite)
pins: 1, 2

## MMZ1005Y601CT000
designator FB?  Impedance @ Frequency: 600Ω@100MHz
Ferrite, 600Ω@100MHz, ±25%, 540mΩ, 250mA, SMD 0402; Manufacturer: TDK; Manufacturer Part Number: MMZ1005Y601CT000; Package Size: 0402; JLCPCB Basic Part: No; JLCPCB Part Number: C87552; Supplier 1: LCSC; Category: Ferrite Beads; Supplier Part Number 1: C87552; Tolerance: ±25%; Rated Current: 250mA; DC Resistance: 540mΩ; RoHS: Yes; ComponentLink1Description: Datasheet; ComponentLink1URL: https://wmsc.lcsc.com/wmsc/upload/file/pdf/v2/lcsc/2304140030_TDK-MMZ1005Y601CT000_C87552.pdf; ComponentLink2Description: JLCPCB Part URL; ComponentLink2URL: https://jlcpcb.com/partdetail/C87552; ComponentLink3Description: LCSC Part URL; ComponentLink3URL: https://lcsc.com/product-detail/Ferrite-Beads_TDK-TDK-MMZ1005Y601CT000_C87552.html
footprint FB-0402 (0402 (1005M) Ferrite)
pins: 1, 2

## MPZ1005S100CT000
designator FB?  Impedance @ Frequency: 10Ω@100MHz
Ferrite, 10Ω@100MHz, 25mΩ, 3A, SMD 0402; Manufacturer: TDK; Manufacturer Part Number: MPZ1005S100CT000; Package Size: 0402; JLCPCB Basic Part: No; JLCPCB Part Number: C275476; Supplier 1: LCSC; Category: Ferrite Beads; Supplier Part Number 1: C275476; Rated Current: 3A; DC Resistance: 25mΩ; RoHS: Yes; ComponentLink1Description: Datasheet; ComponentLink1URL: https://wmsc.lcsc.com/wmsc/upload/file/pdf/v2/lcsc/2304140030_TDK-MPZ1005S100CT000_C275476.pdf; ComponentLink2Description: JLCPCB Part URL; ComponentLink2URL: https://jlcpcb.com/partdetail/C275476; ComponentLink3Description: LCSC Part URL; ComponentLink3URL: https://lcsc.com/product-detail/Ferrite-Beads_TDK-TDK-MPZ1005S100CT000_C275476.html
pins: 1, 2

## MPZ1005S121CT000
designator FB?  Impedance @ Frequency: 120Ω@100MHz
Ferrite, 120Ω@100MHz, ±25%, 90mΩ, 1.2A, SMD 0402; Manufacturer: TDK; Manufacturer Part Number: MPZ1005S121CT000; Package Size: 0402; JLCPCB Basic Part: No; JLCPCB Part Number: C107331; Supplier 1: LCSC; Category: Ferrite Beads; Supplier Part Number 1: C107331; Tolerance: ±25%; Rated Current: 1.2A; DC Resistance: 90mΩ; RoHS: Yes; ComponentLink1Description: Datasheet; ComponentLink1URL: https://wmsc.lcsc.com/wmsc/upload/file/pdf/v2/lcsc/2304140030_TDK-MPZ1005S121CT000_C107331.pdf; ComponentLink2Description: JLCPCB Part URL; ComponentLink2URL: https://jlcpcb.com/partdetail/C107331; ComponentLink3Description: LCSC Part URL; ComponentLink3URL: https://lcsc.com/product-detail/Ferrite-Beads_TDK-TDK-MPZ1005S121CT000_C107331.html
footprint FB-0402 (0402 (1005M) Ferrite)
pins: 1, 2

## MPZ1005S121ET000
designator FB?  Impedance @ Frequency: 120Ω@100MHz
Ferrite, 120Ω@100MHz, ±25%, 95mΩ, 1.5A, SMD 0402; Manufacturer: TDK; Manufacturer Part Number: MPZ1005S121ET000; Package Size: 0402; JLCPCB Basic Part: No; JLCPCB Part Number: C275477; Supplier 1: LCSC; Category: Ferrite Beads; Supplier Part Number 1: C275477; Tolerance: ±25%; Rated Current: 1.5A; DC Resistance: 95mΩ; RoHS: Yes; ComponentLink1Description: Datasheet; ComponentLink1URL: https://wmsc.lcsc.com/wmsc/upload/file/pdf/v2/lcsc/1912111437_TDK-MPZ1005S121ET000_C275477.pdf; ComponentLink2Description: JLCPCB Part URL; ComponentLink2URL: https://jlcpcb.com/partdetail/C275477; ComponentLink3Description: LCSC Part URL; ComponentLink3URL: https://lcsc.com/product-detail/Ferrite-Beads_TDK-TDK-MPZ1005S121ET000_C275477.html
footprint FB-0402 (0402 (1005M) Ferrite)
pins: 1, 2

## MPZ1005S121ETD25
designator FB?  Impedance @ Frequency: 120Ω@100MHz
Ferrite, 120Ω@100MHz, ±25%, 95mΩ, 1.5A, SMD 0402; Manufacturer: TDK; Manufacturer Part Number: MPZ1005S121ETD25; Package Size: 0402; JLCPCB Basic Part: No; JLCPCB Part Number: C2661532; Supplier 1: LCSC; Category: Ferrite Beads; Supplier Part Number 1: C2661532; Tolerance: ±25%; Rated Current: 1.5A; DC Resistance: 95mΩ; RoHS: Yes; ComponentLink1Description: Datasheet; ComponentLink1URL: https://wmsc.lcsc.com/wmsc/upload/file/pdf/v2/lcsc/2304140030_TDK-MPZ1005S121ETD25_C2661532.pdf; ComponentLink2Description: JLCPCB Part URL; ComponentLink2URL: https://jlcpcb.com/partdetail/C2661532; ComponentLink3Description: LCSC Part URL; ComponentLink3URL: https://lcsc.com/product-detail/Ferrite-Beads_TDK-TDK-MPZ1005S121ETD25_C2661532.html
footprint FB-0402 (0402 (1005M) Ferrite)
pins: 1, 2

## MPZ1005S121HT000
designator FB?  Impedance @ Frequency: 120Ω@100MHz
Ferrite, 120Ω@100MHz, ±25%, 55mΩ, 2A, SMD 0402; Manufacturer: TDK; Manufacturer Part Number: MPZ1005S121HT000; Package Size: 0402; JLCPCB Basic Part: No; JLCPCB Part Number: C275478; Supplier 1: LCSC; Category: Ferrite Beads; Supplier Part Number 1: C275478; Tolerance: ±25%; Rated Current: 2A; DC Resistance: 55mΩ; RoHS: Yes; ComponentLink1Description: Datasheet; ComponentLink1URL: https://wmsc.lcsc.com/wmsc/upload/file/pdf/v2/lcsc/2304140030_TDK-MPZ1005S121HT000_C275478.pdf; ComponentLink2Description: JLCPCB Part URL; ComponentLink2URL: https://jlcpcb.com/partdetail/C275478; ComponentLink3Description: LCSC Part URL; ComponentLink3URL: https://lcsc.com/product-detail/Ferrite-Beads_TDK-TDK-MPZ1005S121HT000_C275478.html
footprint FB-0402 (0402 (1005M) Ferrite)
pins: 1, 2

## MPZ1005S221ETD25
designator FB?  Impedance @ Frequency: 220Ω@100MHz
Ferrite, 220Ω@100MHz, ±25%, 220mΩ, 900mA, SMD 0402; Manufacturer: TDK; Manufacturer Part Number: MPZ1005S221ETD25; Package Size: 0402; JLCPCB Basic Part: No; JLCPCB Part Number: C165810; Supplier 1: LCSC; Category: Ferrite Beads; Supplier Part Number 1: C165810; Tolerance: ±25%; Rated Current: 900mA; DC Resistance: 220mΩ; RoHS: Yes; ComponentLink1Description: Datasheet; ComponentLink1URL: https://wmsc.lcsc.com/wmsc/upload/file/pdf/v2/lcsc/1809051019_TDK-MPZ1005S221ETD25_C165810.pdf; ComponentLink2Description: JLCPCB Part URL; ComponentLink2URL: https://jlcpcb.com/partdetail/C165810; ComponentLink3Description: LCSC Part URL; ComponentLink3URL: https://lcsc.com/product-detail/Ferrite-Beads_TDK-TDK-MPZ1005S221ETD25_C165810.html
footprint FB-0402 (0402 (1005M) Ferrite)
pins: 1, 2

## MPZ1005S221HT000
designator FB?  Impedance @ Frequency: 220Ω@100MHz
Ferrite, 220Ω@100MHz, ±25%, 95mΩ, 1.5A, SMD 0402; Manufacturer: TDK; Manufacturer Part Number: MPZ1005S221HT000; Package Size: 0402; JLCPCB Basic Part: No; JLCPCB Part Number: C1870222; Supplier 1: LCSC; Category: Ferrite Beads; Supplier Part Number 1: C1870222; Tolerance: ±25%; Rated Current: 1.5A; DC Resistance: 95mΩ; RoHS: Yes; ComponentLink1Description: Datasheet; ComponentLink1URL: https://wmsc.lcsc.com/wmsc/upload/file/pdf/v2/lcsc/2201272330_TDK-MPZ1005S221HT000_C1870222.pdf; ComponentLink2Description: JLCPCB Part URL; ComponentLink2URL: https://jlcpcb.com/partdetail/C1870222; ComponentLink3Description: LCSC Part URL; ComponentLink3URL: https://lcsc.com/product-detail/Ferrite-Beads_TDK-TDK-MPZ1005S221HT000_C1870222.html
footprint FB-0402 (0402 (1005M) Ferrite)
pins: 1, 2

## MPZ1005S300CT000
designator FB?  Impedance @ Frequency: 30Ω@100MHz
Ferrite, 30Ω@100MHz, 35mΩ, 1.7A, SMD 0402; Manufacturer: TDK; Manufacturer Part Number: MPZ1005S300CT000; Package Size: 0402; JLCPCB Basic Part: No; JLCPCB Part Number: C275480; Supplier 1: LCSC; Category: Ferrite Beads; Supplier Part Number 1: C275480; Rated Current: 1.7A; DC Resistance: 35mΩ; RoHS: Yes; ComponentLink1Description: Datasheet; ComponentLink1URL: https://wmsc.lcsc.com/wmsc/upload/file/pdf/v2/lcsc/1810311724_TDK-MPZ1005S300CT000_C275480.pdf; ComponentLink2Description: JLCPCB Part URL; ComponentLink2URL: https://jlcpcb.com/partdetail/C275480; ComponentLink3Description: LCSC Part URL; ComponentLink3URL: https://lcsc.com/product-detail/Ferrite-Beads_TDK-TDK-MPZ1005S300CT000_C275480.html
pins: 1, 2

## MPZ1005S300CTD25
designator FB?  Impedance @ Frequency: 30Ω@100MHz
Ferrite, 30Ω@100MHz, 35mΩ, 1.7A, SMD 0402; Manufacturer: TDK; Manufacturer Part Number: MPZ1005S300CTD25; Package Size: 0402; JLCPCB Basic Part: No; JLCPCB Part Number: C404686; Supplier 1: LCSC; Category: Ferrite Beads; Supplier Part Number 1: C404686; Rated Current: 1.7A; DC Resistance: 35mΩ; RoHS: Yes; ComponentLink1Description: Datasheet; ComponentLink1URL: https://wmsc.lcsc.com/wmsc/upload/file/pdf/v2/lcsc/2304140030_TDK-MPZ1005S300CTD25_C404686.pdf; ComponentLink2Description: JLCPCB Part URL; ComponentLink2URL: https://jlcpcb.com/partdetail/C404686; ComponentLink3Description: LCSC Part URL; ComponentLink3URL: https://lcsc.com/product-detail/Ferrite-Beads_TDK-TDK-MPZ1005S300CTD25_C404686.html
pins: 1, 2

## MPZ1005S330HT000
designator FB?  Impedance @ Frequency: 33Ω@100MHz
Ferrite, 33Ω@100MHz, ±25%, 22mΩ, 3A, SMD 0402; Manufacturer: TDK; Manufacturer Part Number: MPZ1005S330HT000; Package Size: 0402; JLCPCB Basic Part: No; JLCPCB Part Number: C434836; Supplier 1: LCSC; Category: Ferrite Beads; Supplier Part Number 1: C434836; Tolerance: ±25%; Rated Current: 3A; DC Resistance: 22mΩ; RoHS: Yes; ComponentLink1Description: Datasheet; ComponentLink1URL: https://wmsc.lcsc.com/wmsc/upload/file/pdf/v2/lcsc/2304140030_TDK-MPZ1005S330HT000_C434836.pdf; ComponentLink2Description: JLCPCB Part URL; ComponentLink2URL: https://jlcpcb.com/partdetail/C434836; ComponentLink3Description: LCSC Part URL; ComponentLink3URL: https://lcsc.com/product-detail/Ferrite-Beads_TDK-TDK-MPZ1005S330HT000_C434836.html
footprint FB-0402 (0402 (1005M) Ferrite)
pins: 1, 2

## MPZ1005S331ET000
designator FB?  Impedance @ Frequency: 330Ω@100MHz
Ferrite, 330Ω@100MHz, ±25%, 280mΩ, 700mA, SMD 0402; Manufacturer: TDK; Manufacturer Part Number: MPZ1005S331ET000; Package Size: 0402; JLCPCB Basic Part: No; JLCPCB Part Number: C275481; Supplier 1: LCSC; Category: Ferrite Beads; Supplier Part Number 1: C275481; Tolerance: ±25%; Rated Current: 700mA; DC Resistance: 280mΩ; RoHS: Yes; ComponentLink1Description: Datasheet; ComponentLink1URL: https://wmsc.lcsc.com/wmsc/upload/file/pdf/v2/lcsc/2304140030_TDK-MPZ1005S331ET000_C275481.pdf; ComponentLink2Description: JLCPCB Part URL; ComponentLink2URL: https://jlcpcb.com/partdetail/C275481; ComponentLink3Description: LCSC Part URL; ComponentLink3URL: https://lcsc.com/product-detail/Ferrite-Beads_TDK-TDK-MPZ1005S331ET000_C275481.html
footprint FB-0402 (0402 (1005M) Ferrite)
pins: 1, 2

## MPZ1005S331ETD25
designator FB?  Impedance @ Frequency: 330Ω@100MHz
Ferrite, 330Ω@100MHz, 280mΩ, 700mA, SMD 0402; Manufacturer: TDK; Manufacturer Part Number: MPZ1005S331ETD25; Package Size: 0402; JLCPCB Basic Part: No; JLCPCB Part Number: C445756; Supplier 1: LCSC; Category: Ferrite Beads; Supplier Part Number 1: C445756; Rated Current: 700mA; DC Resistance: 280mΩ; RoHS: Yes; ComponentLink1Description: Datasheet; ComponentLink1URL: https://wmsc.lcsc.com/wmsc/upload/file/pdf/v2/lcsc/2304140030_TDK-MPZ1005S331ETD25_C445756.pdf; ComponentLink2Description: JLCPCB Part URL; ComponentLink2URL: https://jlcpcb.com/partdetail/C445756; ComponentLink3Description: LCSC Part URL; ComponentLink3URL: https://lcsc.com/product-detail/Ferrite-Beads_TDK-TDK-MPZ1005S331ETD25_C445756.html
pins: 1, 2

## MPZ1005S600CT000
designator FB?  Impedance @ Frequency: 60Ω@100MHz
Ferrite, 60Ω@100MHz, ±25%, 60mΩ, 1.5A, SMD 0402; Manufacturer: TDK; Manufacturer Part Number: MPZ1005S600CT000; Package Size: 0402; JLCPCB Basic Part: No; JLCPCB Part Number: C76813; Supplier 1: LCSC; Category: Ferrite Beads; Supplier Part Number 1: C76813; Tolerance: ±25%; Rated Current: 1.5A; DC Resistance: 60mΩ; RoHS: Yes; ComponentLink1Description: Datasheet; ComponentLink1URL: https://wmsc.lcsc.com/wmsc/upload/file/pdf/v2/lcsc/1809051318_TDK-MPZ1005S600CT000_C76813.pdf; ComponentLink2Description: JLCPCB Part URL; ComponentLink2URL: https://jlcpcb.com/partdetail/C76813; ComponentLink3Description: LCSC Part URL; ComponentLink3URL: https://lcsc.com/product-detail/Ferrite-Beads_TDK-TDK-MPZ1005S600CT000_C76813.html
footprint FB-0402 (0402 (1005M) Ferrite)
pins: 1, 2

## MPZ1005S900HT000
designator FB?  Impedance @ Frequency: 90Ω@100MHz
Ferrite, 90Ω@100MHz, ±25%, 38mΩ, 2.3A, SMD 0402; Manufacturer: TDK; Manufacturer Part Number: MPZ1005S900HT000; Package Size: 0402; JLCPCB Basic Part: No; JLCPCB Part Number: C524454; Supplier 1: LCSC; Category: Ferrite Beads; Supplier Part Number 1: C524454; Tolerance: ±25%; Rated Current: 2.3A; DC Resistance: 38mΩ; RoHS: Yes; ComponentLink1Description: Datasheet; ComponentLink1URL: https://wmsc.lcsc.com/wmsc/upload/file/pdf/v2/lcsc/2007171235_TDK-MPZ1005S900HT000_C524454.pdf; ComponentLink2Description: JLCPCB Part URL; ComponentLink2URL: https://jlcpcb.com/partdetail/C524454; ComponentLink3Description: LCSC Part URL; ComponentLink3URL: https://lcsc.com/product-detail/Ferrite-Beads_TDK-TDK-MPZ1005S900HT000_C524454.html
footprint FB-0402 (0402 (1005M) Ferrite)
pins: 1, 2

## MU1005-121Y
designator FB?  Impedance @ Frequency: 120Ω@100MHz
Ferrite, 120Ω@100MHz, ±25%, 0.3Ω, 100mA, SMD 0402; Manufacturer: BOURNS; Manufacturer Part Number: MU1005-121Y; Package Size: 0402; JLCPCB Basic Part: No; JLCPCB Part Number: C139465; Supplier 1: LCSC; Category: Ferrite Beads; Supplier Part Number 1: C139465; Tolerance: ±25%; Rated Current: 100mA; DC Resistance: 0.3Ω; RoHS: Yes; ComponentLink1Description: Datasheet; ComponentLink1URL: https://wmsc.lcsc.com/wmsc/upload/file/pdf/v2/lcsc/2304140030_BOURNS-MU1005-121Y_C139465.pdf; ComponentLink2Description: JLCPCB Part URL; ComponentLink2URL: https://jlcpcb.com/partdetail/C139465; ComponentLink3Description: LCSC Part URL; ComponentLink3URL: https://lcsc.com/product-detail/Ferrite-Beads_BOURNS-BOURNS-MU1005-121Y_C139465.html
footprint FB-0402 (0402 (1005M) Ferrite)
pins: 1, 2

## MU1005-221Y
designator FB?  Impedance @ Frequency: 220Ω@100MHz
Ferrite, 220Ω@100MHz, ±25%, 0.4Ω, 100mA, SMD 0402; Manufacturer: BOURNS; Manufacturer Part Number: MU1005-221Y; Package Size: 0402; JLCPCB Basic Part: No; JLCPCB Part Number: C139466; Supplier 1: LCSC; Category: Ferrite Beads; Supplier Part Number 1: C139466; Tolerance: ±25%; Rated Current: 100mA; DC Resistance: 0.4Ω; RoHS: Yes; ComponentLink1Description: Datasheet; ComponentLink1URL: https://wmsc.lcsc.com/wmsc/upload/file/pdf/v2/lcsc/2304140030_BOURNS-MU1005-221Y_C139466.pdf; ComponentLink2Description: JLCPCB Part URL; ComponentLink2URL: https://jlcpcb.com/partdetail/C139466; ComponentLink3Description: LCSC Part URL; ComponentLink3URL: https://lcsc.com/product-detail/Ferrite-Beads_BOURNS-BOURNS-MU1005-221Y_C139466.html
footprint FB-0402 (0402 (1005M) Ferrite)
pins: 1, 2

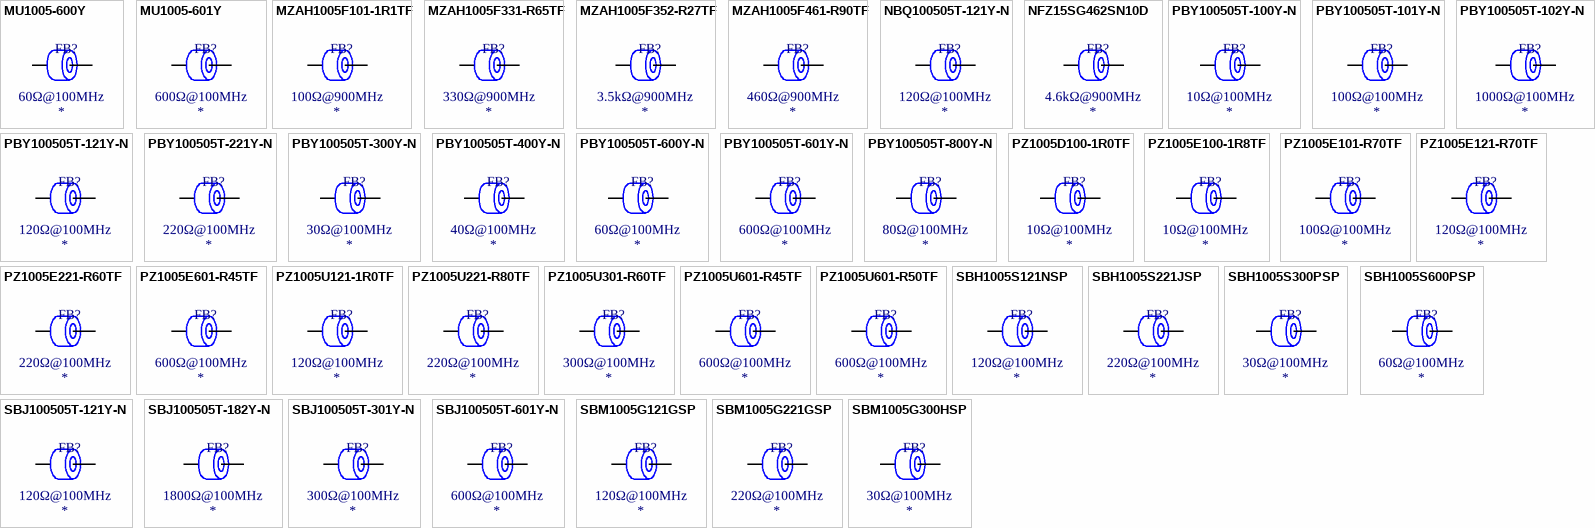
[diagram p11: symbols MU1005-600Y to SBM1005G300HSP]

## MU1005-600Y
designator FB?  Impedance @ Frequency: 60Ω@100MHz
Ferrite, 60Ω@100MHz, ±25%, 0.25Ω, 300mA, SMD 0402; Manufacturer: BOURNS; Manufacturer Part Number: MU1005-600Y; Package Size: 0402; JLCPCB Basic Part: No; JLCPCB Part Number: C139468; Supplier 1: LCSC; Category: Ferrite Beads; Supplier Part Number 1: C139468; Tolerance: ±25%; Rated Current: 300mA; DC Resistance: 0.25Ω; RoHS: Yes; ComponentLink1Description: Datasheet; ComponentLink1URL: https://wmsc.lcsc.com/wmsc/upload/file/pdf/v2/lcsc/2304140030_BOURNS-MU1005-600Y_C139468.pdf; ComponentLink2Description: JLCPCB Part URL; ComponentLink2URL: https://jlcpcb.com/partdetail/C139468; ComponentLink3Description: LCSC Part URL; ComponentLink3URL: https://lcsc.com/product-detail/Ferrite-Beads_BOURNS-BOURNS-MU1005-600Y_C139468.html
footprint FB-0402 (0402 (1005M) Ferrite)
pins: 1, 2

## MU1005-601Y
designator FB?  Impedance @ Frequency: 600Ω@100MHz
Ferrite, 600Ω@100MHz, ±25%, 0.8Ω, 80mA, SMD 0402; Manufacturer: BOURNS; Manufacturer Part Number: MU1005-601Y; Package Size: 0402; JLCPCB Basic Part: No; JLCPCB Part Number: C139469; Supplier 1: LCSC; Category: Ferrite Beads; Supplier Part Number 1: C139469; Tolerance: ±25%; Rated Current: 80mA; DC Resistance: 0.8Ω; RoHS: Yes; ComponentLink1Description: Datasheet; ComponentLink1URL: https://wmsc.lcsc.com/wmsc/upload/file/pdf/v2/lcsc/2304140030_BOURNS-MU1005-601Y_C139469.pdf; ComponentLink2Description: JLCPCB Part URL; ComponentLink2URL: https://jlcpcb.com/partdetail/C139469; ComponentLink3Description: LCSC Part URL; ComponentLink3URL: https://lcsc.com/product-detail/Ferrite-Beads_BOURNS-BOURNS-MU1005-601Y_C139469.html
footprint FB-0402 (0402 (1005M) Ferrite)
pins: 1, 2

## MZAH1005F101-1R1TF
designator FB?  Impedance @ Frequency: 100Ω@900MHz
Ferrite, 100Ω@900MHz, ±25%, 100mΩ, 1.1A, SMD 0402; Manufacturer: Sunlord; Manufacturer Part Number: MZAH1005F101-1R1TF; Package Size: 0402; JLCPCB Basic Part: No; JLCPCB Part Number: C370052; Supplier 1: LCSC; Category: Ferrite Beads; Supplier Part Number 1: C370052; Tolerance: ±25%; Rated Current: 1.1A; DC Resistance: 100mΩ; RoHS: Yes; ComponentLink1Description: Datasheet; ComponentLink1URL: https://wmsc.lcsc.com/wmsc/upload/file/pdf/v2/lcsc/2310301519_Sunlord-MZAH1005F101-1R1TF_C370052.pdf; ComponentLink2Description: JLCPCB Part URL; ComponentLink2URL: https://jlcpcb.com/partdetail/C370052; ComponentLink3Description: LCSC Part URL; ComponentLink3URL: https://lcsc.com/product-detail/Ferrite-Beads_Sunlord-Sunlord-MZAH1005F101-1R1TF_C370052.html
footprint FB-0402 (0402 (1005M) Ferrite)
pins: 1, 2

## MZAH1005F331-R65TF
designator FB?  Impedance @ Frequency: 330Ω@900MHz
Ferrite, 330Ω@900MHz, ±25%, 300mΩ, 650mA, SMD 0402; Manufacturer: Sunlord; Manufacturer Part Number: MZAH1005F331-R65TF; Package Size: 0402; JLCPCB Basic Part: No; JLCPCB Part Number: C709647; Supplier 1: LCSC; Category: Ferrite Beads; Supplier Part Number 1: C709647; Tolerance: ±25%; Rated Current: 650mA; DC Resistance: 300mΩ; RoHS: Yes; ComponentLink1Description: Datasheet; ComponentLink1URL: https://wmsc.lcsc.com/wmsc/upload/file/pdf/v2/lcsc/2310301640_Sunlord-MZAH1005F331-R65TF_C709647.pdf; ComponentLink2Description: JLCPCB Part URL; ComponentLink2URL: https://jlcpcb.com/partdetail/C709647; ComponentLink3Description: LCSC Part URL; ComponentLink3URL: https://lcsc.com/product-detail/Ferrite-Beads_Sunlord-Sunlord-MZAH1005F331-R65TF_C709647.html
footprint FB-0402 (0402 (1005M) Ferrite)
pins: 1, 2

## MZAH1005F352-R27TF
designator FB?  Impedance @ Frequency: 3.5kΩ@900MHz
Ferrite, 3.5kΩ@900MHz, ±25%, 1.35Ω, 270mA, SMD 0402; Manufacturer: Sunlord; Manufacturer Part Number: MZAH1005F352-R27TF; Package Size: 0402; JLCPCB Basic Part: No; JLCPCB Part Number: C709651; Supplier 1: LCSC; Category: Ferrite Beads; Supplier Part Number 1: C709651; Tolerance: ±25%; Rated Current: 270mA; DC Resistance: 1.35Ω; RoHS: Yes; ComponentLink1Description: Datasheet; ComponentLink1URL: https://wmsc.lcsc.com/wmsc/upload/file/pdf/v2/lcsc/2310301640_Sunlord-MZAH1005F352-R27TF_C709651.pdf; ComponentLink2Description: JLCPCB Part URL; ComponentLink2URL: https://jlcpcb.com/partdetail/C709651; ComponentLink3Description: LCSC Part URL; ComponentLink3URL: https://lcsc.com/product-detail/Ferrite-Beads_Sunlord-Sunlord-MZAH1005F352-R27TF_C709651.html
footprint FB-0402 (0402 (1005M) Ferrite)
pins: 1, 2

## MZAH1005F461-R90TF
designator FB?  Impedance @ Frequency: 460Ω@900MHz
Ferrite, 460Ω@900MHz, ±25%, 170mΩ, 900mA, SMD 0402; Manufacturer: Sunlord; Manufacturer Part Number: MZAH1005F461-R90TF; Package Size: 0402; JLCPCB Basic Part: No; JLCPCB Part Number: C709648; Supplier 1: LCSC; Category: Ferrite Beads; Supplier Part Number 1: C709648; Tolerance: ±25%; Rated Current: 900mA; DC Resistance: 170mΩ; RoHS: Yes; ComponentLink1Description: Datasheet; ComponentLink1URL: https://wmsc.lcsc.com/wmsc/upload/file/pdf/v2/lcsc/2310301640_Sunlord-MZAH1005F461-R90TF_C709648.pdf; ComponentLink2Description: JLCPCB Part URL; ComponentLink2URL: https://jlcpcb.com/partdetail/C709648; ComponentLink3Description: LCSC Part URL; ComponentLink3URL: https://lcsc.com/product-detail/Ferrite-Beads_Sunlord-Sunlord-MZAH1005F461-R90TF_C709648.html
footprint FB-0402 (0402 (1005M) Ferrite)
pins: 1, 2

## NBQ100505T-121Y-N
designator FB?  Impedance @ Frequency: 120Ω@100MHz
Ferrite, 120Ω@100MHz, ±25%, 0.4Ω, 350mA, SMD 0402; Manufacturer: Chilisin Elec; Manufacturer Part Number: NBQ100505T-121Y-N; Package Size: 0402; JLCPCB Basic Part: No; JLCPCB Part Number: C285681; Supplier 1: LCSC; Category: Ferrite Beads; Supplier Part Number 1: C285681; Tolerance: ±25%; Rated Current: 350mA; DC Resistance: 0.4Ω; RoHS: Yes; ComponentLink1Description: Datasheet; ComponentLink1URL: https://wmsc.lcsc.com/wmsc/upload/file/pdf/v2/lcsc/1912111437_Chilisin-Elec-NBQ100505T-121Y-N_C285681.pdf; ComponentLink2Description: JLCPCB Part URL; ComponentLink2URL: https://jlcpcb.com/partdetail/C285681; ComponentLink3Description: LCSC Part URL; ComponentLink3URL: https://lcsc.com/product-detail/Ferrite-Beads_Chilisin-Elec-Chilisin-Elec-NBQ100505T-121Y-N_C285681.html
footprint FB-0402 (0402 (1005M) Ferrite)
pins: 1, 2

## NFZ15SG462SN10D
designator FB?  Impedance @ Frequency: 4.6kΩ@900MHz
Ferrite, 4.6kΩ@900MHz, 1.65Ω, 270mA, SMD 0402; Manufacturer: Murata Electronics; Manufacturer Part Number: NFZ15SG462SN10D; Package Size: 0402; JLCPCB Basic Part: No; JLCPCB Part Number: C237605; Supplier 1: LCSC; Category: Ferrite Beads; Supplier Part Number 1: C237605; Rated Current: 270mA; DC Resistance: 1.65Ω; RoHS: Yes; ComponentLink1Description: Datasheet; ComponentLink1URL: https://wmsc.lcsc.com/wmsc/upload/file/pdf/v2/lcsc/2304140030_Murata-Electronics-NFZ15SG462SN10D_C237605.pdf; ComponentLink2Description: JLCPCB Part URL; ComponentLink2URL: https://jlcpcb.com/partdetail/C237605; ComponentLink3Description: LCSC Part URL; ComponentLink3URL: https://lcsc.com/product-detail/Ferrite-Beads_Murata-Electronics-Murata-Electronics-NFZ15SG462SN10D_C237605.html
pins: 1, 2

## PBY100505T-100Y-N
designator FB?  Impedance @ Frequency: 10Ω@100MHz
Ferrite, 10Ω@100MHz, ±25%, 0.03Ω, 2000mA, SMD 0402; Manufacturer: Chilisin Elec; Manufacturer Part Number: PBY100505T-100Y-N; Package Size: 0402; JLCPCB Basic Part: No; JLCPCB Part Number: C142088; Supplier 1: LCSC; Category: Ferrite Beads; Supplier Part Number 1: C142088; Tolerance: ±25%; Rated Current: 2000mA; DC Resistance: 0.03Ω; RoHS: Yes; ComponentLink1Description: Datasheet; ComponentLink1URL: https://wmsc.lcsc.com/wmsc/upload/file/pdf/v2/lcsc/2304140030_Chilisin-Elec-PBY100505T-100Y-N_C142088.pdf; ComponentLink2Description: JLCPCB Part URL; ComponentLink2URL: https://jlcpcb.com/partdetail/C142088; ComponentLink3Description: LCSC Part URL; ComponentLink3URL: https://lcsc.com/product-detail/Ferrite-Beads_Chilisin-Elec-Chilisin-Elec-PBY100505T-100Y-N_C142088.html
footprint FB-0402 (0402 (1005M) Ferrite)
pins: 1, 2